# Altium schematic symbol library Capacitors.SchLib: 50 symbols
Pins are listed as number, name and electrical type; pins without a type are passive.

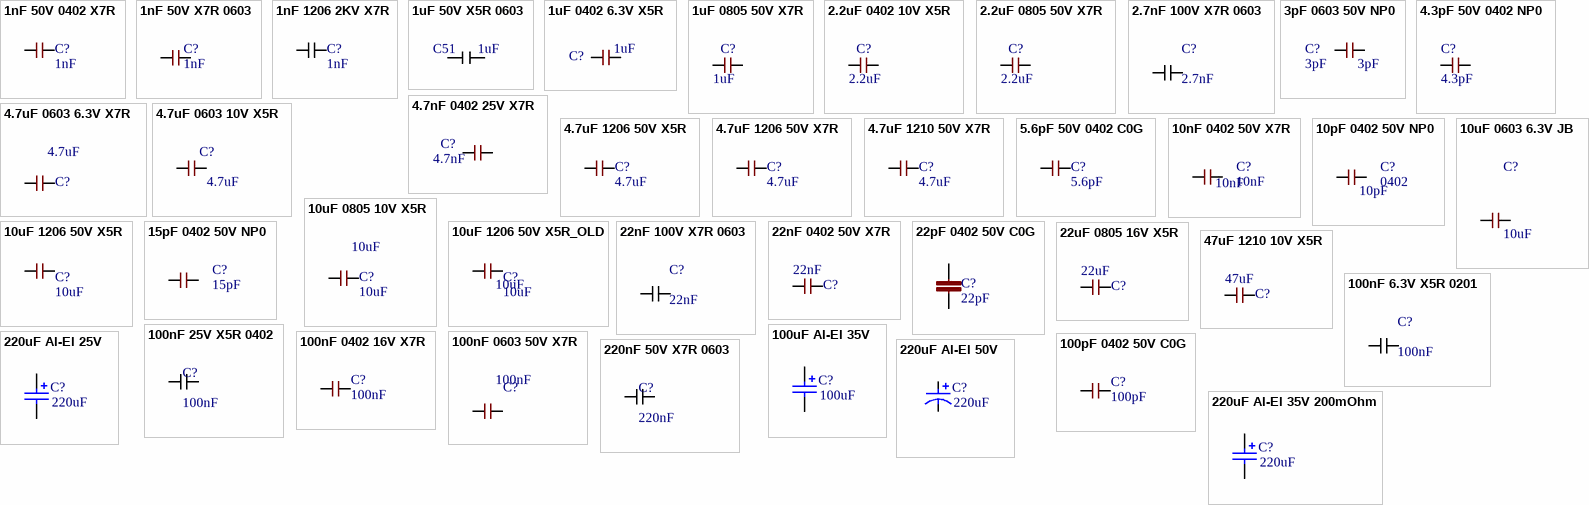
[diagram p0: symbols 1nF 50V 0402 X7R to 220uF Al-El 50V]

## 1nF 50V 0402 X7R
designator C?, comment 1nF
1000pF 50V Ceramic Capacitor X7R 0402 (1005 Metric) 0.039" L x 0.020" W (1.00mm x 0.50mm); MANUFACTURER: Murata; MANUFACTURER #: GRM155R71H102KA01D; PART: 1nF 50V X7R 0402; PART DESCRIPTION: 1000pF ±10% 50V Ceramic Capacitor X7R 0402 (1005 Metric); TOLERANCE: 10%; DISTRIBUTOR #: 490-1303-2-ND; DISTRIBUTOR: Digikey; EE_SPEC: 50V; VALUE: 1nF
footprint C0402
pins: 1, 2

## 1nF 50V X7R 0603
designator C?, comment 1nF
CAP CER 0603  1nF 50v 10% X7R; Manufacturer: Kemet; MANUFACTURER #: C0603C102K5RACTU; Part Description: 1000pF ±10% 50V Ceramic Capacitor X7R 0603 (1608 Metric); EE_SPEC: 1nF 50V X7R 0603; Tolerance: +/- 10%; VALUE: 1nF; DISTRIBUTOR #: 399-1082-2-ND; DISTRIBUTOR: Digi-Key; PART: 1nF
footprint C0603
pins: 1, 2

## 1nF 1206 2KV X7R
designator C?, comment 1nF
CAP CER 1000PF 2KV X7R 1206; MANUFACTURER: Samsung; MANUFACTURER #: CL31B102KJHNNNE; PART: 4.7uF 50V X5R 1206; PART DESCRIPTION: 1000pF ±10% 2000V (2kV) Ceramic Capacitor X7R 1206 (3216 Metric); TOLERANCE: 10%; EE_SPEC: 2KV; VALUE: 1nF
footprint C1206
pins: 1, 2

## 1uF 50V X5R 0603
designator C51, comment 1uF
CAP CER 1UF 50V 10% X5R 0603; MANUFACTURER: YAGEO; MANUFACTURER #: UMK107BJ105KA-T; PART: 1uF; DISTRIBUTOR: DIGI-KEY; DISTRIBUTOR #: 587-2400-1-ND; COST: 0.05 @ 100pcs
footprint C0603
pins: 1, 2

## 1uF 0402 6.3V X5R
designator C?, comment 1uF
CAP CER 0402 1uF 6.3V 10% X5R; MANUFACTURER: Murata; MANUFACTURER #: GRM155R60J105KE19D; PART: 1uF 6.3V X5R 0402; PART DESCRIPTION: 1µF ±10% 6.3V Ceramic Capacitor X5R 0402 (1005 Metric); DISTRIBUTOR #: 490-1320-2-ND; DISTRIBUTOR: Digikey; TOLERANCE: 10%; EE_SPEC: 6.3V; VALUE: 1uF
footprint C0402
pins: 1, 2

## 1uF 0805 50V X7R
designator C?, comment 1uF
CAP CER 0805 1uF 50V 10% X7R; MANUFACTURER: Murata; MANUFACTURER #: GRM21BR71H105KA12L; PART: 1uF 50V X7R 0805; PART DESCRIPTION: 1µF ±10% 50V Ceramic Capacitor X7R 0805 (2012 Metric); DISTRIBUTOR #: 490-4736-2-ND; DISTRIBUTOR: Digikey; TOLERANCE: 10%; EE_SPEC: 50V; VALUE: 1uF
footprint C0805
pins: 1, 2

## 2.2uF 0402 10V X5R
designator C?, comment 2.2uF
CAP CER 2.2UF 10V X5R 0402; MANUFACTURER: Murata; MANUFACTURER #: GRM155R61A225KE95D; PART DESCRIPTION: 2.2µF ±10% 10V Ceramic Capacitor X5R 0402 (1005 Metric); TOLERANCE: 10%; PART: GRM155R61A225KE95D; EE_SPEC: 10V; VALUE: 2.2uF
footprint C0402
pins: 1, 2

## 2.2uF 0805 50V X7R
designator C?, comment 2.2uF
CAP CER 2.2UF 10V X7R 0805; MANUFACTURER: Samsung; MANUFACTURER #: CL21B225KPFNNNE; PART DESCRIPTION: 2.2µF ±10% 10V Ceramic Capacitor X7R 0805 (2012 Metric); TOLERANCE: 10%; PART: CL21B225KPFNNNE; EE_SPEC: 10V; VALUE: 2.2uF
footprint C0805
pins: 1, 2

## 2.7nF 100V X7R 0603
designator C?, comment 2.7nF
CAP CER 2.7nF 100V 10% X7R 0603; MANUFACTURER: Samsung; MANUFACTURER #: CL10B272KC8WPNC; PART: 2.7nF; TOLERANCE: 10%; VOLTAGE: 100V
footprint C0603
pins: 1, 2

## 3pF 0603 50V NP0
designator C?, comment 3pF
CAP CER 3PF 50V NP0 0603; MANUFACTURER: Samsung; MANUFACTURER #: CL10C030BB8NNNC; PART DESCRIPTION: 3pF ±0.1pF 50V Ceramic Capacitor C0G, NP0 0603 (1608 Metric); TOLERANCE: +/- 0.1pF; DISTRIBUTOR #: 1276-2125-2-ND; DISTRIBUTOR: Digikey; PART: 3pF 50V NP0 0603; EE_SPEC: 50V; VALUE: 3pF
footprint C0603
pins: 1, 2

## 4.3pF 50V 0402 NP0
designator C?, comment 4.3pF
CAP CER 4.3PF 50V C0G/NP0 0402; MANUFACTURER: Murata; MANUFACTURER #: GRM1555C1H4R3CA01D; TOLERANCE: 0.25pF; PART: GRM1555C1H4R3CA01D; PART DESCRIPTION: CAP CER 4.3PF 50V C0G/NP0 0402; EE_SPEC: 50V; VALUE: 4.3pF
footprint C0402
pins: 1, 2

## 4.7nF 0402 25V X7R
designator C?, comment 4.7nF
CAP CER 0402 4.7nF 25V 10% X7R; MANUFACTURER: YAGEO; MANUFACTURER #: CC0402KRX7R8BB472; Part Description: 4700pF ±10% 25V Ceramic Capacitor X7R 0402 (1005 Metric); EE_SPEC: 4.7nF 25V X7R 0402; Tolerance: +/- 10%; VALUE: 4.7nF; DISTRIBUTOR #: 311-1039-2-ND; DISTRIBUTOR: Digi-Key; PART: 4.7nF
footprint C0402
pins: 1, 2

## 4.7uF 0603 6.3V X7R
designator C?, comment value 4.7uF  (hidden comment: 4.7uF 6.3V 0603)
CAP CER 4.7UF 6.3V X7R 0603; MANUFACTURER: Samsung; MANUFACTURER #: CL10B475KQ8NQNC; PART DESCRIPTION: 4.7µF ±10% 6.3V Ceramic Capacitor X7R 0603 (1608 Metric); TOLERANCE: 10%; DISTRIBUTOR #: 1276-2087-2-ND; DISTRIBUTOR: Digikey; PART: 4.7uF; EE_SPEC: 6.3V
footprint C0603
pins: 1, 2

## 4.7uF 0603 10V X5R
designator C?, comment 4.7uF
CAP CER 4.7UF 10V X5R 0603; MANUFACTURER 1: Samsung; MANUFACTURER #: CL10A475KP8NNNC; PART DESCRIPTION: 4.7µF ±10% 10V Ceramic Capacitor X5R 0603 (1608 Metric); TOLERANCE: 10%; PART: 4.7uF; EE_SPEC: 10V; VALUE: 4.7uF
footprint C0603
pins: 1, 2

## 4.7uF 1206 50V X5R
designator C?, comment 4.7uF
CAP CER 1206 4.7uF 50V 10% X5R; MANUFACTURER: Kemet; MANUFACTURER #: C1206C475K5PACTU; PART: 4.7uF 50V X5R 1206; PART DESCRIPTION: 4.7µF ±10% 50V Ceramic Capacitor X5R 1206 (3216 Metric); DISTRIBUTOR #: 399-5507-2-ND; DISTRIBUTOR: Digikey; TOLERANCE: 10%; EE_SPEC: 50V; VALUE: 4.7uF
footprint C1206
pins: 1, 2

## 4.7uF 1206 50V X7R
designator C?, comment 4.7uF
CAP CER 4.7µF ±10% 50V X7R 1206 (3216 Metric); MANUFACTURER: Murata; MANUFACTURER #: GRM31CR71H475KA12L; PART: 4.7UF 50V X7R 1206; PART DESCRIPTION: 4.7µF ±10% 50V Ceramic Capacitor X7R 1206 (3216 Metric); TOLERANCE: 10%; EE_SPEC: 50V; VALUE: 4.7uF
footprint C1206
pins: 1, 2

## 4.7uF 1210 50V X7R
designator C?, comment 4.7uF
CAP CER 4.7UF 50V X7R 1210; MANUFACTURER: Murata; MANUFACTURER #: GRM32ER71H475KA88L; PART: 4.7uF 1210 50V X7R; PART DESCRIPTION: 4.7µF ±10% 50V Ceramic Capacitor X7R 1210 (3225 Metric); TOLERANCE: 10%; DISTRIBUTOR #: 490-1864-1-ND; DISTRIBUTOR: Digikey; EE_SPEC: 50V; VALUE: 4.7uF
footprint C1210
pins: 1, 2

## 5.6pF 50V 0402 C0G
designator C?, comment 5.6pF
CAP CER 5.6PF 50V C0G/NP0 0402; MANUFACTURER: Murata; MANUFACTURER #: GRM1555C1H5R6CA01D; PART: 5.6pF 50V 0402 C0G; PART DESCRIPTION: 5.6pF ±0.25pF 50V Ceramic Capacitor C0G, NP0 0402 (1005 Metric); TOLERANCE: +/-0.25pF; DISTRIBUTOR #: 490-6250-2-ND; DISTRIBUTOR: Digikey; EE_SPEC: 50V; VALUE: 5.6pF
footprint C0402
pins: 1, 2

## 10nF 0402 50V X7R
designator C?, comment 10nF
CAP CER 10nF 50V X7R 0402; PART DESCRIPTION: 10000pF ±5% 50V Ceramic Capacitor X7R 0402 (1005 Metric); MANUFACTURER #: GRM155R71H103JA88D; MANUFACTURER: Murata; TOLERANCE: 5%; EE_SPEC: 50V; DISTRIBUTOR #: 490-7763-1-ND; DISTRIBUTOR: Digikey; PART: 10nF 50V X7R 0402; VALUE: 10nF
footprint C0402
pins: 1, 2

## 10pF 0402 50V NP0
designator C?, comment 0402  value 10pF
CAP CER 10PF 50V 5% NP0 0402; PART DESCRIPTION: 10pF ±5% 50V Ceramic Capacitor C0G, NP0 0402 (1005 Metric); MANUFACTURER #: CL05C100JB5NNNC; MANUFACTURER: Samsung; PART: 10pF 50V NP0 0402; TOLERANCE: 5%; EE_SPEC: 50V; DISTRIBUTOR #: 1276-1139-2-ND; DISTRIBUTOR: Digikey
footprint C0402
pins: 1, 2

## 10uF 0603 6.3V JB
designator C?, comment value 10uF  (hidden comment: 0603)
CAP CER 10UF 6.3V 10% JB 0603; MANUFACTURER #: C1608JB0J106K080AB; MANUFACTURER: TDK; PART: 10µF ±10% 6.3V Ceramic Capacitor JB 0603 (1608 Metric); EE_SPEC: 6.3VDC; PART DESCRIPTION: CAP CER 10UF 6.3V 10% JB 0603; TOLERANCE: 10%; DISTRIBUTOR #: 445-11185-1-ND; DISTRIBUTOR: Digikey
footprint C0603
pins: 1, 2

## 10uF 0805 10V X5R
designator C?, comment 10uF
CAP CER 0805 10uF 10V 10% X5R; MANUFACTURER: Kemet; MANUFACTURER #: C0805C106K8PACTU; PART: 10uF 10V X5R 0805; PART DESCRIPTION: 10µF ±10% 10V Ceramic Capacitor X5R 0805 (2012 Metric); DISTRIBUTOR #: 399-4925-2-ND; DISTRIBUTOR: Digikey; TOLERANCE: 10%; EE_SPEC: 10V; VALUE: 10uF
footprint C0805
pins: 1, 2

## 10uF 1206 50V X5R
designator C?, comment 10uF
CAP CER 10UF 50V 10% X5R 1206; MANUFACTURER: Murata; MANUFACTURER #: 490-10756-2-ND; PART: CAP CER 10UF 50V X5R 1206; PART DESCRIPTION: 10µF ±20% 50V Ceramic Capacitor X5R 1206 (3216 Metric); MANUFACTURER2#: 587-3248-2-ND; DISTRIBUTOR #: 490-10756-2-ND; DISTRIBUTOR: Digikey; TOLERANCE: 10%; EE_SPEC: 50V; VALUE: 10uF
footprint C1206
pins: 1, 2

## 10uF 1206 50V X5R_OLD
designator C?, comment 10uF
CAP CER 10UF 50V 10% X5R 1206; MANUFACTURER: Samsung; MANUFACTURER #: CL31A106KBHNNNE; PART: 10uF 50V X5R 1206; PART DESCRIPTION: 10µF ±10% 50V Ceramic Capacitor X5R 1206 (3216 Metric); MANUFACTURER2#: 490-10756-2-ND     587-3248-2-ND; DISTRIBUTOR #: 1276-2876-2-ND; DISTRIBUTOR: Digikey; TOLERANCE: 10%; EE_SPEC: 50V; DNI: DNI; VALUE: 10uF
footprint C1206
pins: 1, 2

## 15pF 0402 50V NP0
designator C?, comment 15pF
CAP CER 15PF 50V C0G/NP0 0402; PART DESCRIPTION: 15pF ±5% 50V Ceramic Capacitor C0G, NP0 0402 (1005 Metric); MANUFACTURER #: CL05C150JB5NNNC; MANUFACTURER: Samsung; PART: 15pF 50V NP0 0402; TOLERANCE: 5%; EE_SPEC: 50V; DISTRIBUTOR #: 1276-1179-2-ND; DISTRIBUTOR: Digikey; VALUE: 15pF
footprint C0402
pins: 1, 2

## 22nF 100V X7R 0603
designator C?, comment 22nF
CAP CER 0.022UF 100V X7R 0603; MANUFACTURER: Kemet; MANUFACTURER #: C0603C223K1RACTU; PART DESCRIPTION: 0.022µF ±10% 100V Ceramic Capacitor X7R 0603 (1608 Metric); EE_SPEC: 100 X7R; VALUE: 22nF
footprint C0603
pins: 1, 2

## 22nF 0402 50V X7R
designator C?, comment value 22nF  (hidden comment: 22nF 50V 0402)
CAP CER 22nF 50V X7R 0402; MANUFACTURER: Murata; MANUFACTURER #: GRM155R71H223KA12D; PART DESCRIPTION: 0.022µF ±10% 50V Ceramic Capacitor X7R 0402 (1005 Metric); TOLERANCE: 10%; DISTRIBUTOR #: 490-3884-2-ND; DISTRIBUTOR: Digikey; PART: 22nF; EE_SPEC: 50V
footprint C0402 (Chip Capacitor, Ceramic, 0402, Manually adjusted)
pins: 1, 2

## 22pF 0402 50V C0G
designator C?, comment 22pF
CAP CER 0402 22pF 50V 5% C0G; Manufacturer: AVX; MANUFACTURER #: 04025A220JAT2A; Part Description: 22pF ±5% 50V Ceramic Capacitor C0G, NP0 0402 (1005 Metric); EE_SPEC: 22pF 5% 50V NP0 0402; VALUE: 22pF; DISTRIBUTOR #: 478-1074-2-ND; DISTRIBUTOR: Digi-Key; PART: 22pF 50V; Tolerance: 5%
footprint C0402
pins: 1, 2

## 22uF 0805 16V X5R
designator C?, comment 22uF
CAP CER 22UF 16V X5R 0805; MANUFACTURER: Samsung; MANUFACTURER #: CL21A226MOCLRNC; PART: 22uF 0805 16V X5R; PART DESCRIPTION: 22µF ±20% 16V Ceramic Capacitor X5R 0805 (2012 Metric); TOLERANCE: 20%; DISTRIBUTOR #: 1276-6780-2-ND; DISTRIBUTOR: Digikey; EE_SPEC: 16V; VALUE: 22uF
footprint C0805
pins: 1, 2

## 47uF 1210 10V X5R
designator C?, comment 47uF
CAP CER 47UF 10V X5R 1210; MANUFACTURER: Murata; MANUFACTURER #: GRM32ER61A476KE20L; PART DESCRIPTION: 47µF ±10% 10V Ceramic Capacitor X5R 1210 (3225 Metric); TOLERANCE: 10%; EE_SPEC: 10V, 3mOhm; DISTRIBUTOR #: 490-3887-1-ND; DISTRIBUTOR: Digikey; PART: 47uF; VALUE: 47uF
footprint C1210
pins: 1, 2

## 100nF 6.3V X5R 0201
designator C?, comment 100nF
CAP CER 0.1UF 6.3V 10% X5R 0201; PART: .1uF; MANUFACTURER: Samsung; MANUFACTURER #: CL03A104KQ3NNNC; DISTRIBUTOR: DIGI-KEY; DISTRIBUTOR #: 1276-1013-1-ND; TOLERANCE: 10%; VOLTAGE: 6.3V
footprint C0201 Large Pads (Chip Capacitor, 2-Leads, Body 0.60x0.30mm, IPC Medium Density)
pins: 1, 2

## 100nF 25V X5R 0402
designator C?, comment 100nF
CAP CER 0.1UF 25V 10% X5R 0402; MANUFACTURER: Murata; MANUFACTURER #: GRM155R61E104KA87D; EE_SPEC: 25V 10%; VALUE: 100nF
footprint C0402 (Chip Capacitor, Ceramic, 0402, Manually adjusted)
pins: 1, 2

## 100nF 0402 16V X7R
designator C?, comment 100nF
CAP CER 0402 100nF 16V 10% X7R; MANUFACTURER: Murata; MANUFACTURER #: GRM155R71C104KA88D; PART: 0.1uF 16V X7R 0402; PART DESCRIPTION: 0.10µF ±10% 16V Ceramic Capacitor X7R 0402 (1005 Metric); VALUE: 100nF; DISTRIBUTOR #: 490-3261-2-ND; DISTRIBUTOR: Digikey; TOLERANCE: 10%; EE_SPEC: 16V
footprint C0402
pins: 1, 2

## 100nF 0603 50V X7R
designator C?, comment 100nF
CAP CER 0603 100nF 50V 10% X7R; MANUFACTURER: Kemet; MANUFACTURER #: C0603C104K5RACTU; PART: 100nF 50V X7R 0603; PART DESCRIPTION: 0.10µF ±10% 50V Ceramic Capacitor X7R 0603 (1608 Metric); DISTRIBUTOR #: 399-5089-2-ND; DISTRIBUTOR: Digikey; TOLERANCE: 10%; EE_SPEC: 50V; VALUE: 100nF
footprint C0603
pins: 1, 2

## 100pF 0402 50V C0G
designator C?, comment 100pF
CAP CER 100PF 50V C0G/NP0 0402; MANUFACTURER: Samsung; MANUFACTURER #: CL05C101JB5NNNC; PART: 100pF 0402 50V C0G; PART DESCRIPTION: 100pF ±5% 50V Ceramic Capacitor C0G, NP0 0402 (1005 Metric); TOLERANCE: +/-5%; VALUE: 100pF; DISTRIBUTOR #: 1276-1025-1-ND; DISTRIBUTOR: Digikey; EE_SPEC: 50V
footprint C0402
pins: 1, 2

## 100uF Al-El 35V
designator C?  value 100uF  (hidden comment: 100uF Al-El 35V)
CAP ALUM 100UF 35V 20% SMD; MANUFACTURER #: UWT1V101MCL1GS; MANUFACTURER: Nichicon; PART: 100uF 35V SMD Al-El; PART DESCRIPTION: 100µF 35V Aluminum Capacitors Radial, Can - SMD 1000 Hrs @ 105°C; DISTRIBUTOR #: 493-2203-2-ND; DISTRIBUTOR: Digikey; TOLERANCE: 20%; EE_SPEC: 35V
footprint CAP-ELEC-063063077 (6.3x6.3x7.7mm)
pins: 1, 2
1 alternate drawing of the same symbol

## 220nF 50V X7R 0603
designator C?, comment 220nF
CAP CER 0.22UF 50V X7R 0603; MANUFACTURER: TDK; MANUFACTURER #: CGA3E3X7R1H224K080AB; PART DESCRIPTION: 0.22µF ±10% 50V Ceramic Capacitor X7R 0603 (1608 Metric); EE_SPEC: 50V X7R; VALUE: 220nF
footprint C0603
pins: 1, 2

## 220uF Al-El 25V
designator C?, comment 220uF
CAP ALUM 220UF 20% 25V SMD; MANUFACTURER #: UUX1E221MNL1GS; MANUFACTURER: Nichicon; PART DESCRIPTION: 220µF 25V Aluminum Electrolytic Capacitors Radial, Can - SMD 2000 Hrs @ 105°C; EE_SPEC: 351mA@120Hz; 456mA@10kHz; DISTRIBUTOR #: 493-9619-2-ND; DISTRIBUTOR: Digikey; PART: 220uF; TOLERANCE: 20%; VALUE: 220uF
footprint CAP10X10 (Aluminum Electrolytic Capacitor, Body 10.30x10.30x10.80mm, IPC High Density)
pins: 1, 2
1 alternate drawing of the same symbol

## 220uF Al-El 35V 200mOhm
designator C?, comment 220uF
CAP ALUM 220UF 20% 35V SMD; MANUFACTURER #: 35THV220M10X10.5; MANUFACTURER: Rubycon; PART DESCRIPTION: 220µF 35V Aluminum Electrolytic Capacitors Radial, Can - SMD 200 mOhm @ 100Hz 3000 Hrs @ 125°C; EE_SPEC: 200mOhm@100kHz; 300mA@120Hz; 500mA@10kHz; DISTRIBUTOR #: 1189-2056-1-ND; DISTRIBUTOR: Digikey; PART: 220uF; TOLERANCE: 20%; VALUE: 220uF
footprint CAP10X10 (Aluminum Electrolytic Capacitor, Body 10.30x10.30x10.80mm, IPC High Density)
pins: 1, 2
1 alternate drawing of the same symbol

## 220uF Al-El 50V
designator C?, comment 220uF
CAP ALUM 220UF 20% 50V SMD; MANUFACTURER #: UCW1H221MNL1GS; MANUFACTURER: Nichicon; PART DESCRIPTION: 220µF 50V Aluminum Electrolytic Capacitors Radial, Can - SMD 7000 Hrs @ 105°C; EE_SPEC: 365mA@120Hz 730mA@100kHz 350mOhms; DISTRIBUTOR #: 493-9426-2-ND; DISTRIBUTOR: Digikey; PART: 220uF; TOLERANCE: 20%; VALUE: 220uF
footprint CAP10X10 (Aluminum Electrolytic Capacitor, Body 10.30x10.30x10.80mm, IPC High Density)
pins: 1, 2
1 alternate drawing of the same symbol

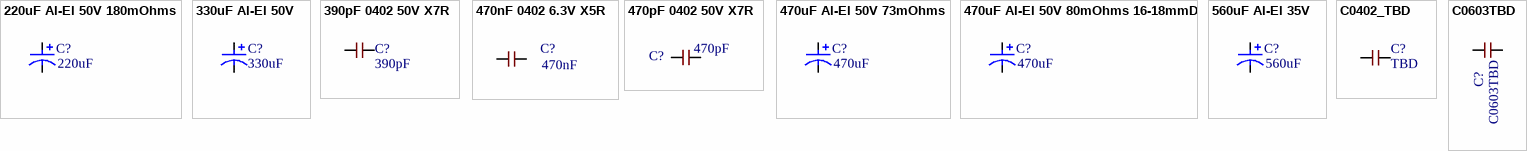
[diagram p1: symbols 220uF Al-El 50V 180mOhms to C0603TBD]

## 220uF Al-El 50V 180mOhms
designator C?, comment 220uF
CAP ALUM 220UF 20% 50V 180mOhms SMD; MANUFACTURER #: EEE-FK1H221P; MANUFACTURER: Nichicon; PART DESCRIPTION: 220µF 50V Aluminum Electrolytic Capacitors Radial, Can - SMD  2000 Hrs @ 105°C; EE_SPEC: 180 mOhms @ 100Khz; PART: EEE-FK1H221P; TOLERANCE: 20%; VALUE: 220uF
footprint CAP10X10 (Aluminum Electrolytic Capacitor, Body 10.30x10.30x10.80mm, IPC High Density)
pins: 1, 2
1 alternate drawing of the same symbol

## 330uF Al-El 50V
designator C?, comment 330uF
CAP ALUM 330UF 20% 50V SMD; MANUFACTURER #: EEV-FK1H331Q; MANUFACTURER: Nichicon; PART: 220uF; PART DESCRIPTION: 330µF 50V Aluminum Electrolytic Capacitors Radial, Can - SMD 5000 Hrs @ 105°C; EE_SPEC: 675mA@120Hz 900mA@100kHz 120mOhms; DISTRIBUTOR #: PCE3475TR-ND; DISTRIBUTOR: Digikey; TOLERANCE: 20%; VALUE: 330uF
footprint CAP-ELEC_12.5x13.5
pins: 1, 2
1 alternate drawing of the same symbol

## 390pF 0402 50V X7R
designator C?, comment 390pF
CAP CER 390PF 50V X7R 0402; MANUFACTURER: Samsung; MANUFACTURER #: CL05B391KB5NNNC; PART DESCRIPTION: 390pF ±10% 50V Ceramic Capacitor X7R 0402 (1005 Metric); TOLERANCE: 10%; PART: 390PF 50V X7R 0402; EE_SPEC: 50V; VALUE: 390pF
footprint C0402
pins: 1, 2

## 470nF 0402 6.3V X5R
designator C?, comment value 470nF  (hidden comment: 0402)
470nF 6.3v C0402 - GRM155R60J474KE19D; PART DESCRIPTION: 470nF ±10% 6.3V Ceramic Capacitor X5R 0402 (1005 Metric); MANUFACTURER: Murata; PART: 0.47uF 6.3V X5R 0402; TOLERANCE: 10%; EE_SPEC: 6.3V; MANUFACTURER #: GRM155R60J474KE19D; DISTRIBUTOR #: 490-3266-2-ND; DISTRIBUTOR: Digikey
footprint C0402
pins: 1, 2

## 470pF 0402 50V X7R
designator C?, comment 470pF
CAP CER 470PF 50V X7R 0402; MANUFACTURER: Yageo; MANUFACTURER #: CC0402KRX7R9BB471; PART DESCRIPTION: 470pF ±10% 50V Ceramic Capacitor X7R 0402 (1005 Metric); TOLERANCE: 10%; PART: 470PF 50V X7R 0402; EE_SPEC: 50V X7R 0402; VALUE: 470pF
footprint C0402
pins: 1, 2

## 470uF Al-El 50V 73mOhms
designator C?, comment 470uF
CAP ALUM 470uF 20% 50V 73mOhms SMD; MANUFACTURER #: EEV-FK1H471M; MANUFACTURER: Panasonic; PART DESCRIPTION: 470µF 50V Aluminum Electrolytic Capacitors Radial, Can - SMD  2000 Hrs @ 105°C; EE_SPEC: 73 mOhms @ 100Khz; PART: EEV-FK1H471M; TOLERANCE: 20%; VALUE: 470uF
footprint CAP16x17 (Aluminum Electrolytic Capacitor, Body 10.30x10.30x10.80mm, IPC High Density)
pins: 1, 2
1 alternate drawing of the same symbol

## 470uF Al-El 50V 80mOhms 16-18mmD
designator C?, comment 470uF
CAP ALUM 470UF 20% 50V SMD; MANUFACTURER #: UCZ1H471MNQ1MS; MANUFACTURER: Nichicon; PART DESCRIPTION: 470µF 50V Aluminum Electrolytic Capacitors Radial, Can - SMD 80 mOhm @ 100kHz 3500 Hrs @ 125°C; EE_SPEC: 80 mOhms, 2A @ 100Khz; PART: UCZ1H471MNQ1MS; TOLERANCE: 20%; VALUE: 470uF
footprint CAP16x17 (Aluminum Electrolytic Capacitor, Body 10.30x10.30x10.80mm, IPC High Density)
pins: 1, 2
1 alternate drawing of the same symbol

## 560uF Al-El 35V
designator C?, comment 560uF
CAP ALUM 560UF 20% 35V SMD; MANUFACTURER #: UCM1V561MNL1GS; MANUFACTURER: Nichicon; PART DESCRIPTION: 560µF 35V Aluminum Electrolytic Capacitors Radial, Can - SMD 2000 Hrs @ 105°C; EE_SPEC: 595mA@120Hz 1.19A@100kHz 60mOhms; DISTRIBUTOR #: 493-14541-2-ND; DISTRIBUTOR: Digikey; PART: 560uF; TOLERANCE: 20%; VALUE: 560uF
footprint CAP10X10 (Aluminum Electrolytic Capacitor, Body 10.30x10.30x10.80mm, IPC High Density)
pins: 1, 2
1 alternate drawing of the same symbol

## C0402_TBD
designator C?, comment TBD
CAP CER 0402 TBD; MANUFACTURER: TBD; VALUE: TBD; MANUFACTURER #: TBD; DISTRIBUTOR #: TBD; PART: TBD; PART DESCRIPTION: TBD; EE_SPEC: TBD
footprint C0402
pins: 1, 2

## C0603TBD
designator C?
Capacitor Non Polarized; MANUFACTURER #: DNI-C0603TBD; VALUE: C0603TBD; DNI: DNI
footprint C0603
pins: 1, 2